# Altium footprint library feisikaer.PcbLib: 16 footprints
Each footprint in its own frame and in the unit in brackets; x right, y up, seen from the top. Pads: shape width x height; smd on the part's side, far side on the other; paste and mask are expansions set on the pad; w line width, h text height; cw(c..) or ccw(c..) is an arc to the next point about the centre after c.
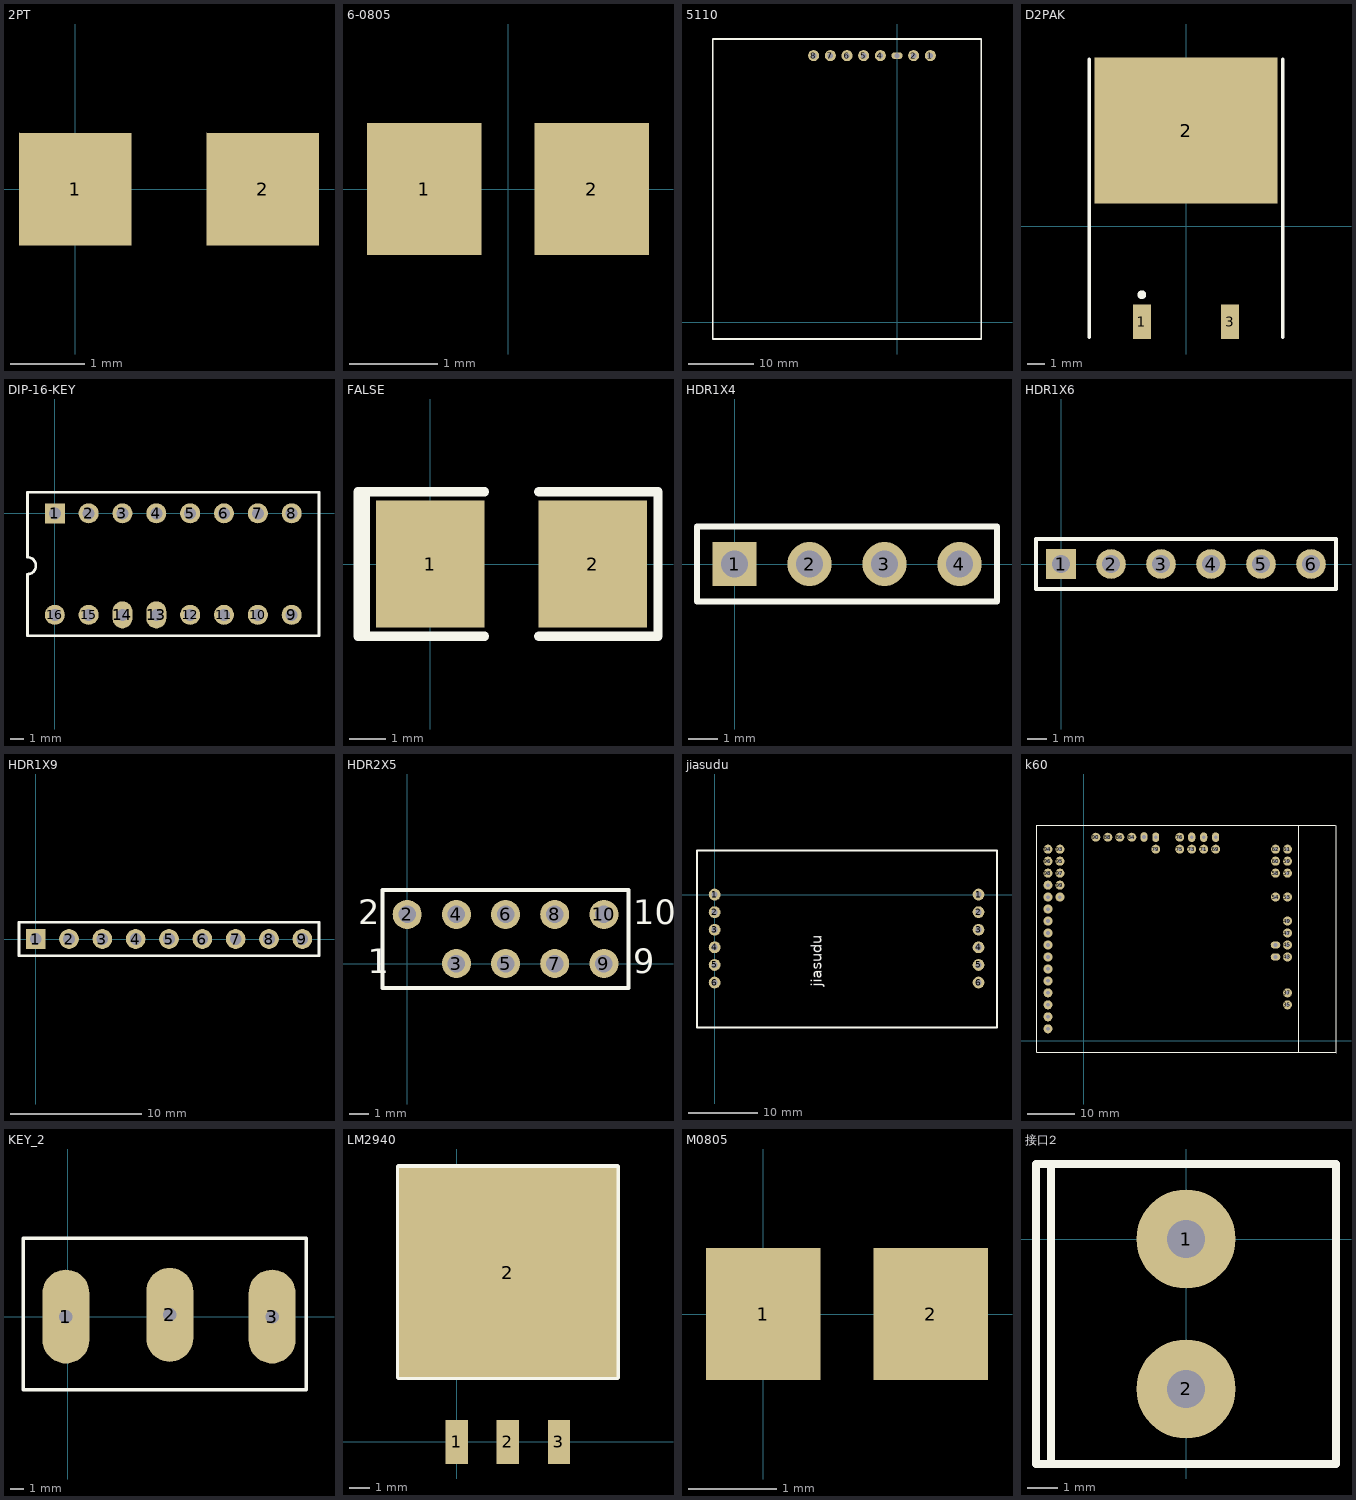
[diagram p0: the footprints below, top view; thin cyan lines are the x and y axes]

## 2PT [mil]
pads (2):
  rect 60x60 smd: 1(0,0) 2(100,0)

## 6-0805 [mm]
height 0.65
pads (2):
  rect 1.3x1.5 smd: 1(-0.95,0) 2(0.95,0)

## 5110 [mm]
pads (8):
  round 1.7 hole 0.8: 1(5.08,40.64) 2(2.54,40.64) 4(-2.54,40.64) 5(-5.08,40.64) 6(-7.62,40.64) 7(-10.16,40.64) 8(-12.7,40.64)
  oval 1.7x1.016 hole 0.8: 3(0,40.64)
Top Overlay:
  lines w0.254: -28.067,-2.54 -28.067,43.18 12.827,43.18 12.827,-2.54 -28.067,-2.54

## D2PAK [mm]
height 4.69
pads (3):
  rect 1.05x2 smd: 1(-2.54,-5.5) 3(2.54,-5.5)
  rect 10.55x8.4 smd: 2(0,5.5)
Top Overlay:
  circle w0.25: c-2.54,-3.95 r0.125
  lines w0.2: -5.575,-6.4 -5.575,9.6 ; 5.575,-6.4 5.575,9.6

## DIP-16-KEY [mm]
pads (16):
  rect 1.5x1.5 hole 0.9: 1(0,0)
  round 1.5 hole 0.9: 2(2.54,0) 3(5.08,0) 4(7.62,0) 5(10.16,0) 6(12.7,0) 7(15.24,0) 8(17.78,0) 9(17.78,-7.62) 10(15.24,-7.62) 11(12.7,-7.62) 12(10.16,-7.62) 15(2.54,-7.62) 16(0,-7.62)
  oval 1.5x2.032 hole 0.9: 13(7.62,-7.62) 14(5.08,-7.62)
Top Overlay:
  lines w0.2: -2.05,-4.6 -2.05,-9.2 19.83,-9.2 19.83,1.59 -2.05,1.59 -2.05,-3.3 cw(c-2.05,-3.935) -2.05,-4.57

## FALSE [mm]
pads (2):
  rect 3x3.5 smd: 1(0,0) 2(4.5,0)
Top Overlay:
  lines w0.254: -1.3,-2 -2,-2 -2,2 -1.2,2 ; 1.5,-2 -1.8,-2 -1.8,2 1.5,2 ; 3,-2 6.3,-2 6.3,2 3,2

## HDR1X4 [mm]
pads (4):
  rect 1.5x1.5 hole 0.9: 1(0,0)
  round 1.5 hole 0.9: 2(2.54,0) 3(5.08,0) 4(7.62,0)
Top Overlay:
  lines w0.2: -1.27,-1.27 8.89,-1.27 8.89,1.27 -1.27,1.27 -1.27,-1.27

## HDR1X6 [mm]
pads (6):
  rect 1.5x1.5 hole 0.9: 1(0,0)
  round 1.5 hole 0.9: 2(2.54,0) 3(5.08,0) 4(7.62,0) 5(10.16,0) 6(12.7,0)
Top Overlay:
  lines w0.2: -1.27,-1.27 -1.27,1.27 13.97,1.27 13.97,-1.27 -1.27,-1.27

## HDR1X9 [mm]
pads (9):
  rect 1.5x1.5 hole 0.9: 1(0,0)
  round 1.5 hole 0.9: 2(2.54,0) 3(5.08,0) 4(7.62,0) 5(10.16,0) 6(12.7,0) 7(15.24,0) 8(17.78,0) 9(20.32,0)
Top Overlay:
  lines w0.2: -1.27,-1.27 -1.27,1.27 21.59,1.27 21.59,-1.27 -1.27,-1.27

## HDR2X5 [mm]
pads (9):
  round 1.5 hole 0.9: 2(0,2.54) 3(2.54,0) 4(2.54,2.54) 5(5.08,0) 6(5.08,2.54) 7(7.62,0) 8(7.62,2.54) 9(10.16,0) 10(10.16,2.54)
Top Overlay:
  lines w0.2: -1.27,-1.27 -1.27,3.81 11.43,3.81 11.43,-1.27 -1.27,-1.27
  text "10" at 11.684,2.032 h1.27
  text "2" at -2.54,2.032 h1.27
  text "1" at -2.032,-0.508 h1.27
  text "9" at 11.684,-0.508 h1.27

## jiasudu [mm]
pads (12):
  round 1.7 hole 0.9: 1(0,0) 1(38.1,0) 2(0,-2.54) 2(38.1,-2.54) 3(0,-5.08) 3(38.1,-5.08) 4(0,-7.62) 4(38.1,-7.62) 5(0,-10.16) 5(38.1,-10.16) 6(0,-12.7) 6(38.1,-12.7)
Top Overlay:
  lines w0.254: -2.54,-19.177 40.767,-19.177 40.767,6.35 -2.54,6.35 -2.54,-19.177
  text "jiasudu" at 15.446,-13.299 h1.52

## k60 [mm]
pads (52):
  round 1.9 hole 0.762: 35(43.18,7.62) 37(43.18,10.16) 43(43.18,17.78) 45(43.18,20.32) 47(43.18,22.86) 49(43.18,25.4) 53(43.18,30.48) 54(40.64,30.48) 57(43.18,35.56) 58(40.64,35.56) 59(43.18,38.1) 60(40.64,38.1) 61(43.18,40.64) 62(40.64,40.64) 69(27.94,40.64) 71(25.4,40.64) 73(22.86,40.64) 75(20.32,40.64) 76(20.32,43.18) 79(15.24,40.64) 84(10.16,43.18) 86(7.62,43.18) 88(5.08,43.18) 90(2.54,43.18) 93(-5.08,40.64) 94(-7.62,40.64) 95(-5.08,38.1) 96(-7.62,38.1) 97(-5.08,35.56) 98(-7.62,35.56) 99(-5.08,33.02) 100(-7.62,33.02) 101(-5.08,30.48) 102(-7.62,30.48) 104(-7.62,27.94) 106(-7.62,25.4) 108(-7.62,22.86) 110(-7.62,20.32) 112(-7.62,17.78) 114(-7.62,15.24) 116(-7.62,12.7) 118(-7.62,10.16) 120(-7.62,7.62) 122(-7.62,5.08) 124(-7.62,2.54)
  oval 2.032x1.473 hole 0.762: 44(40.64,17.78) 46(40.64,20.32)
  oval 1.524x2.032 hole 0.762: 70(27.94,43.18) 72(25.4,43.18) 74(22.86,43.18)
  oval 1.473x2.032 hole 0.762: 80(15.24,43.18) 82(12.748,43.224)
Top Overlay:
  lines w0.254: -10.16,45.72 45.593,45.72 ; -10.033,45.593 -10.033,-2.413 45.466,-2.413 ; 45.466,-2.413 53.34,-2.413 53.467,-2.54 53.467,45.593 53.34,45.72 45.593,45.72 ; 45.466,-2.413 45.593,-2.286 45.593,45.72

## KEY_2 [mm]
pads (3):
  oval 3.5x7 hole 1: 1(-0.127,0) 2(7.62,0.127) 3(15.24,0)
Top Overlay:
  lines w0.254: -3.302,-5.461 17.78,-5.461 17.78,5.842 -3.302,5.842 -3.302,-5.461

## LM2940 [mm]
pads (4):
  rect 1.1x2.2 smd: 1(0,0) 2(2.54,0) 3(5.08,0)
  rect 10.8x10.4 smd: 2(2.54,8.42)
Top Overlay:
  lines w0.254: -2.9,3.2 8,3.2 8,13.7 -2.9,13.7 -2.9,3.2

## M0805 [mm]
pads (2):
  rect 1.3x1.5 smd: 1(0,0) 2(1.9,0)

## 接口2 [mil]
pads (2):
  round 130 hole 50: 1(0,0) 2(0,-196.85)
Top Overlay:
  lines w10: -177.17,-295.28 -177.17,98.43 ; -196.85,-295.28 196.85,-295.28 196.85,98.43 0,98.43 -196.85,98.43 -196.85,-295.28